# EAGLE library part STP16DP05 (library X893)
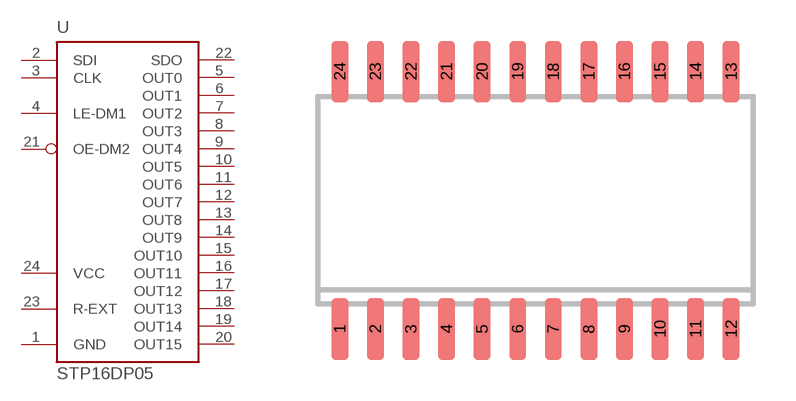
[diagram p141: symbol with the pads of SO24W; footprint SO24W]

Designator prefix U

## STP16DP05MT  [SO24W]
1  GND  pwr
2  SDI  in
3  CLK  in
4  LE-DM1  in
5  OUT0  hiz
6  OUT1  hiz
7  OUT2  hiz
8  OUT3  hiz
9  OUT4  hiz
10  OUT5  hiz
11  OUT6  hiz
12  OUT7  hiz
13  OUT8  hiz
14  OUT9  hiz
15  OUT10  hiz
16  OUT11  hiz
17  OUT12  hiz
18  OUT13  hiz
19  OUT14  hiz
20  OUT15  hiz
21  OE-DM2  in
22  SDO  out
23  R-EXT  pas
24  VCC  pas

## Footprint SO24W (pad centres in mm)
SMALL OUTLINE INTEGRATED CIRCUIT wide body 7.5 mm/JEDEC MO-119AA
smd 0.6 x 2.2: 1 -6.985,-4.6; 2 -5.715,-4.6; 3 -4.445,-4.6; 4 -3.175,-4.6; 5 -1.905,-4.6; 6 -0.635,-4.6; 7 0.635,-4.6; 8 1.905,-4.6; 9 3.175,-4.6; 10 4.445,-4.6; 11 5.715,-4.6; 12 6.985,-4.6; 13 6.985,4.6; 14 5.715,4.6; 15 4.445,4.6; 16 3.175,4.6; 17 1.905,4.6; 18 0.635,4.6; 19 -0.635,4.6; 20 -1.905,4.6; 21 -3.175,4.6; 22 -4.445,4.6; 23 -5.715,4.6; 24 -6.985,4.6